# Altium schematic symbol library HR911105A.SchLib: 1 symbol
Pins are listed as number, name and electrical type; pins without a type are passive.

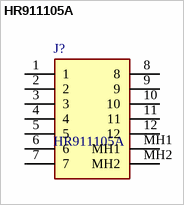
[diagram p0: symbol HR911105A]

## HR911105A
designator J?
Ethernet Connectors/Modular Connectors (RJ45 RJ11) DIP RoHS; Manufacturer_Name: Hanrun Electronics; Geometry.Height: 13.75mm; Manufacturer_Part_Number: HR911105A; Mouser Part Number: *; Mouser Price/Stock: *; Arrow Part Number: *; Arrow Price/Stock: *; Datasheet Link: https://datasheet.lcsc.com/szlcsc/Zhongshan-HanRun-Elec-HR911105A_C12074.pdf
footprint HR911105A
pins: 1, 2, 3, 4, 5, 6, 7, 8, 9, 10, 11, 12, MH1, MH2